# EAGLE library part DRF1278F_2 (library ESP32-Cam-Pico-V4)
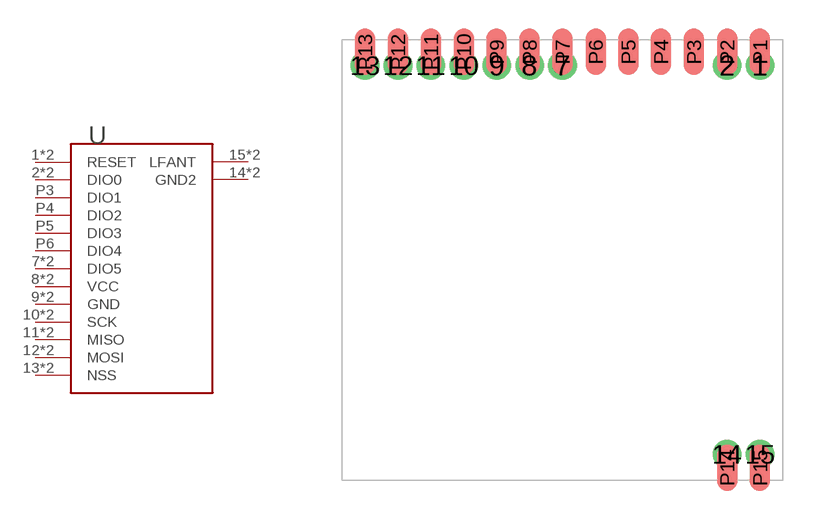
[diagram p0: symbol with the pads of DRF1278F_2_LESS_PINS; footprint DRF1278F_2_LESS_PINS]

Designator prefix -

## DRF1278F_2LESS_PINS  [DRF1278F_2_LESS_PINS]
1  RESET
2  DIO0
7  DIO5
8  VCC
9  GND
10  SCK
11  MISO
12  MOSI
13  NSS
14  GND2
15  LFANT
P1  RESET
P2  DIO0
P3  DIO1
P4  DIO2
P5  DIO3
P6  DIO4
P7  DIO5
P8  VCC
P9  GND
P10  SCK
P11  MISO
P12  MOSI
P13  NSS
P14  GND2
P15  LFANT

## Footprint DRF1278F_2_LESS_PINS (pad centres in mm)
drill 0.6 pad 0.85: 1 16.12,16; 2 14.85,16; 7 8.5,16; 8 7.23,16; 9 5.96,16; 10 4.69,16; 11 3.42,16; 12 2.15,16; 13 0.88,16; 14 14.85,1; 15 16.12,1
smd 0.8 x 1.8: P1 16.12,16.53; P2 14.85,16.53; P3 13.57,16.53; P4 12.3,16.53; P5 11.04,16.53; P6 9.78,16.53; P7 8.5,16.53; P8 7.23,16.53; P9 5.96,16.53; P10 4.69,16.53; P11 3.42,16.53; P12 2.15,16.53; P13 0.88,16.53; P14 14.85,0.48; P15 16.12,0.48